# EAGLE library part PCA9306 (library 3DRobotics_Master_Library)
I2C Level translator. Digi-Key part: 568-4215-1-ND By Jordi Munoz
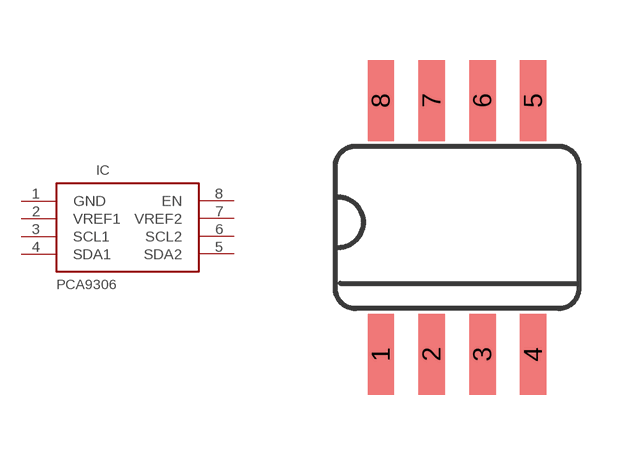
[diagram p4: symbol with the pads of SOIC8; footprint SOIC8]

Designator prefix IC

## PCA9306 (DATASHEET: http://www.nxp.com/documents/data_sheet/PCA9306.pdf; LINK: http://search.digikey.com/scripts/DkSearch/dksus.dll?Detail&name=568-4215-1-ND; MFGPN: PCA9306D,118; PN: 568-4215-1-ND)  [SOIC8]
1  GND  pwr
2  VREF1  pwr
3  SCL1
4  SDA1
5  SDA2
6  SCL2
7  VREF2  pwr
8  EN  in

## Footprint SOIC8 (pad centres in mm)
smd 0.66 x 2.032: 1 -1.905,-3.175; 2 -0.635,-3.175; 3 0.635,-3.175; 4 1.905,-3.175; 5 1.905,3.175; 6 0.635,3.175; 7 -0.635,3.175; 8 -1.905,3.175